# Altium footprint library PcbLib1.PcbLib: 32 footprints (part 2 of 2)
Each footprint in its own frame and in the unit in brackets; x right, y up, seen from the top. Pads: shape width x height; smd on the part's side, far side on the other; paste and mask are expansions set on the pad; w line width, h text height; cw(c..) or ccw(c..) is an arc to the next point about the centre after c.
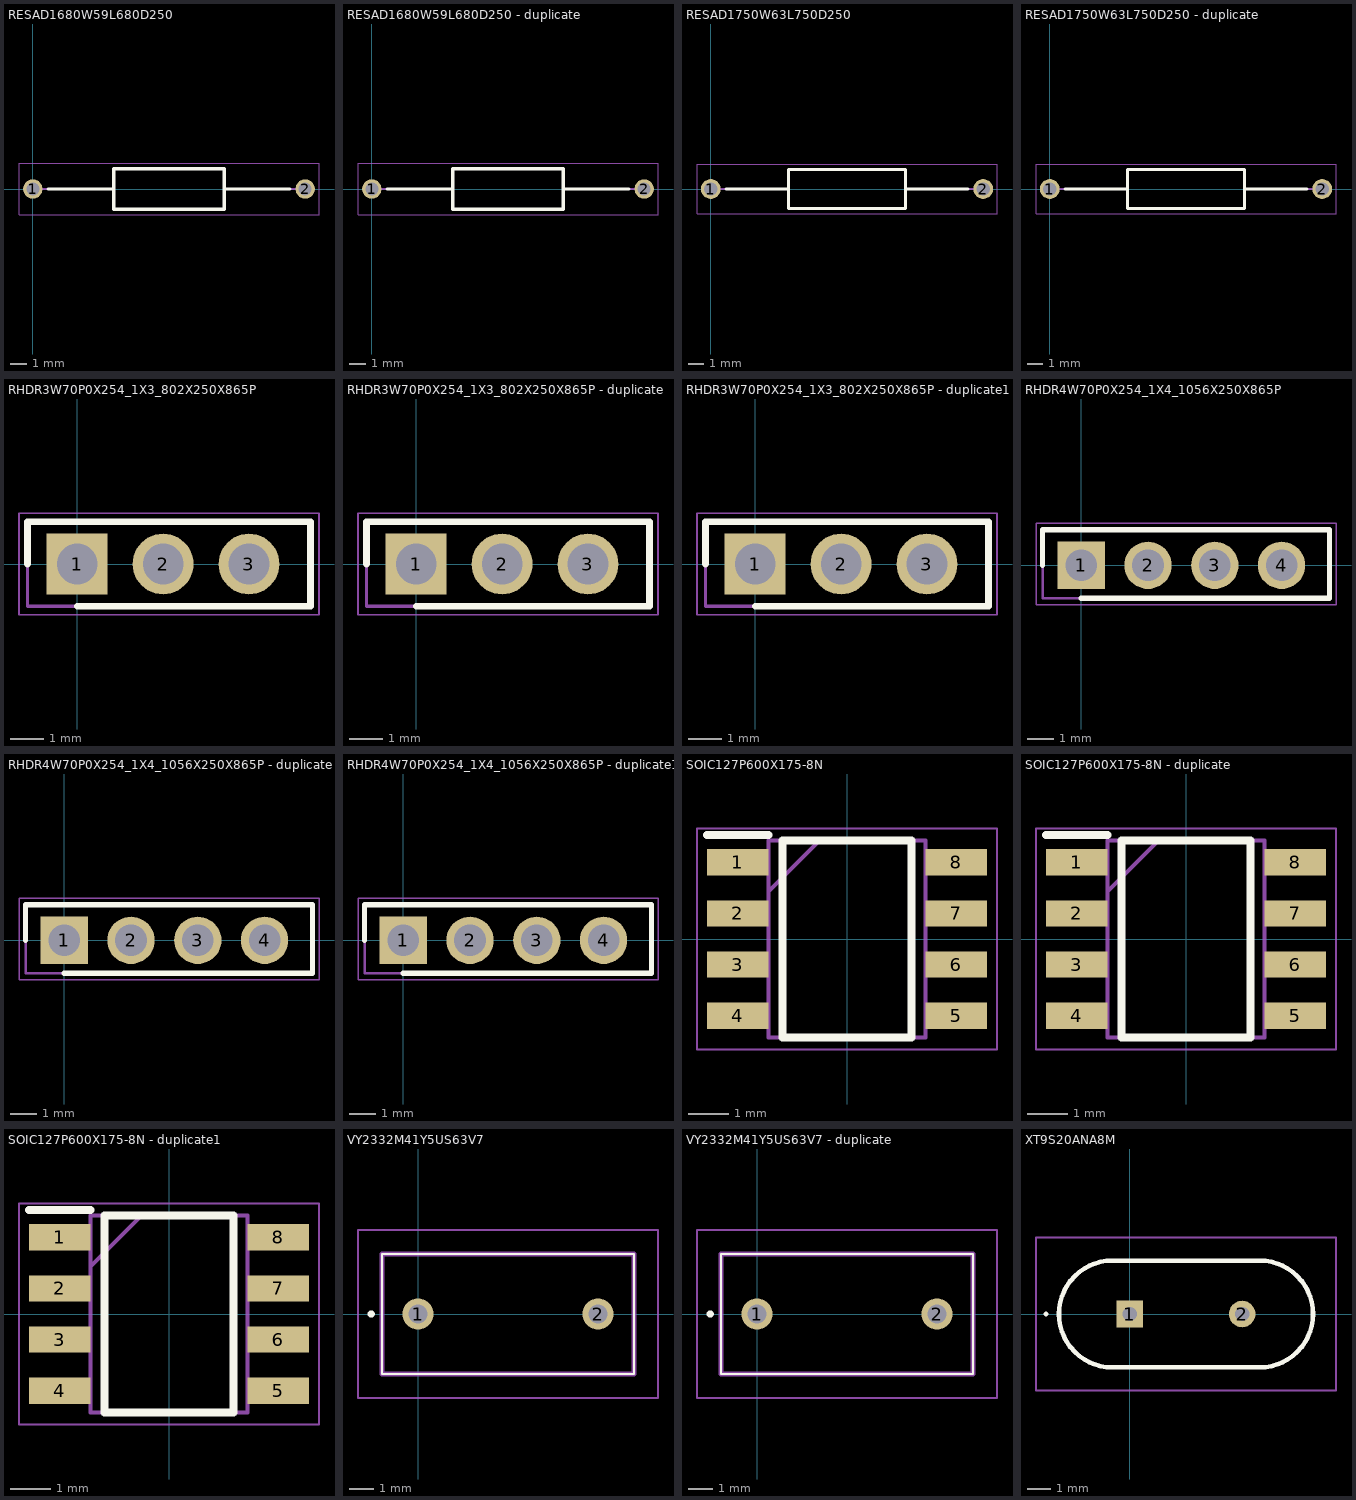
[diagram p1: the footprints below, top view; thin cyan lines are the x and y axes]

## RESAD1680W59L680D250 [mm]
pads (2):
  round 1.2 hole 0.8: 1(0,0) 2(16.8,0)
Top Overlay:
  lines w0.2: 0.95,0 5,0 ; 11.8,0 15.85,0 ; 5,-1.25 5,1.25 11.8,1.25 11.8,-1.25 5,-1.25
Mechanical 13:
  lines w0.1: 0,0 5,0 ; 11.8,0 16.8,0 ; 5,-1.25 5,1.25 11.8,1.25 11.8,-1.25 5,-1.25
Mechanical 15:
  lines w0.05: -0.85,-1.6 -0.85,1.6 17.65,1.6 17.65,-1.6 -0.85,-1.6
3D body "CFR25J120R.stp": height 2.5, standoff -2.5, extent -0.295,-1.241 17.095,1.241

## RESAD1680W59L680D250 - duplicate [mm]
pads (2):
  round 1.2 hole 0.8: 1(0,0) 2(16.8,0)
Top Overlay:
  lines w0.2: 0.95,0 5,0 ; 11.8,0 15.85,0 ; 5,-1.25 5,1.25 11.8,1.25 11.8,-1.25 5,-1.25
Mechanical 13:
  lines w0.1: 0,0 5,0 ; 11.8,0 16.8,0 ; 5,-1.25 5,1.25 11.8,1.25 11.8,-1.25 5,-1.25
Mechanical 15:
  lines w0.05: -0.85,-1.6 -0.85,1.6 17.65,1.6 17.65,-1.6 -0.85,-1.6
3D body "CFR25J120R.stp": height 2.5, standoff -2.5, extent -0.295,-1.241 17.095,1.241

## RESAD1750W63L750D250 [mm]
pads (2):
  round 1.275 hole 0.85: 1(0,0) 2(17.5,0)
Top Overlay:
  lines w0.2: 0.988,0 5,0 ; 12.5,0 16.512,0 ; 5,-1.25 12.5,-1.25 12.5,1.25 5,1.25 5,-1.25
Mechanical 13:
  lines w0.1: 0,0 5,0 ; 12.5,0 17.5,0 ; 5,-1.25 12.5,-1.25 12.5,1.25 5,1.25 5,-1.25
Mechanical 15:
  lines w0.05: -0.888,-1.6 18.387,-1.6 18.387,1.6 -0.888,1.6 -0.888,-1.6
3D body "SFR2500001001JR500.stp": height 2.5, standoff -2.5, extent -0.315,-1.241 17.815,1.241

## RESAD1750W63L750D250 - duplicate [mm]
pads (2):
  round 1.275 hole 0.85: 1(0,0) 2(17.5,0)
Top Overlay:
  lines w0.2: 0.988,0 5,0 ; 12.5,0 16.512,0 ; 5,-1.25 12.5,-1.25 12.5,1.25 5,1.25 5,-1.25
Mechanical 13:
  lines w0.1: 0,0 5,0 ; 12.5,0 17.5,0 ; 5,-1.25 12.5,-1.25 12.5,1.25 5,1.25 5,-1.25
Mechanical 15:
  lines w0.05: -0.888,-1.6 18.387,-1.6 18.387,1.6 -0.888,1.6 -0.888,-1.6
3D body "SFR2500001001JR500.stp": height 2.5, standoff -2.5, extent -0.315,-1.241 17.815,1.241

## RHDR3W70P0X254_1X3_802X250X865P [mm]
pads (3):
  rect 1.8x1.8 hole 1.2: 1(0,0)
  round 1.8 hole 1.2: 2(2.54,0) 3(5.08,0)
Top Overlay:
  lines w0.2: -1.47,0 -1.47,1.25 6.9,1.25 6.9,-1.25 0,-1.25
Mechanical 13:
  lines w0.1: -1.47,-1.25 -1.47,1.25 6.9,1.25 6.9,-1.25 -1.47,-1.25
Mechanical 15:
  lines w0.05: -1.72,-1.5 -1.72,1.5 7.15,1.5 7.15,-1.5 -1.72,-1.5
3D body "M20-7820342.stp": height 8.65, standoff -3.25, extent -1.47,-1.25 6.55,1.25

## RHDR3W70P0X254_1X3_802X250X865P - duplicate [mm]
pads (3):
  rect 1.8x1.8 hole 1.2: 1(0,0)
  round 1.8 hole 1.2: 2(2.54,0) 3(5.08,0)
Top Overlay:
  lines w0.2: -1.47,0 -1.47,1.25 6.9,1.25 6.9,-1.25 0,-1.25
Mechanical 13:
  lines w0.1: -1.47,-1.25 6.9,-1.25 6.9,1.25 -1.47,1.25 -1.47,-1.25
Mechanical 15:
  lines w0.05: -1.72,-1.5 7.15,-1.5 7.15,1.5 -1.72,1.5 -1.72,-1.5
3D body "M20-7820342.stp": height 8.65, standoff -3.25, extent -1.47,-1.25 6.55,1.25

## RHDR3W70P0X254_1X3_802X250X865P - duplicate1 [mm]
pads (3):
  rect 1.8x1.8 hole 1.2: 1(0,0)
  round 1.8 hole 1.2: 2(2.54,0) 3(5.08,0)
Top Overlay:
  lines w0.2: -1.47,0 -1.47,1.25 6.9,1.25 6.9,-1.25 0,-1.25
Mechanical 13:
  lines w0.1: -1.47,-1.25 -1.47,1.25 6.9,1.25 6.9,-1.25 -1.47,-1.25
Mechanical 15:
  lines w0.05: -1.72,-1.5 -1.72,1.5 7.15,1.5 7.15,-1.5 -1.72,-1.5
3D body "M20-7820342.stp": height 8.65, standoff -3.25, extent -1.47,-1.25 6.55,1.25

## RHDR4W70P0X254_1X4_1056X250X865P [mm]
pads (4):
  rect 1.8x1.8 hole 1.2: 1(0,0)
  round 1.8 hole 1.2: 2(2.54,0) 3(5.08,0) 4(7.62,0)
Top Overlay:
  lines w0.2: -1.47,0 -1.47,1.35 9.44,1.35 9.44,-1.25 0,-1.25
Mechanical 13:
  lines w0.1: -1.47,-1.25 9.44,-1.25 9.44,1.35 -1.47,1.35 -1.47,-1.25
Mechanical 15:
  lines w0.05: -1.72,-1.5 9.69,-1.5 9.69,1.6 -1.72,1.6 -1.72,-1.5
3D body "M20-7820442.stp": height 8.65, standoff -3.25, extent -1.47,-1.25 9.09,1.25

## RHDR4W70P0X254_1X4_1056X250X865P - duplicate [mm]
pads (4):
  rect 1.8x1.8 hole 1.2: 1(0,0)
  round 1.8 hole 1.2: 2(2.54,0) 3(5.08,0) 4(7.62,0)
Top Overlay:
  lines w0.2: -1.47,0 -1.47,1.35 9.44,1.35 9.44,-1.25 0,-1.25
Mechanical 13:
  lines w0.1: -1.47,-1.25 -1.47,1.35 9.44,1.35 9.44,-1.25 -1.47,-1.25
Mechanical 15:
  lines w0.05: -1.72,-1.5 -1.72,1.6 9.69,1.6 9.69,-1.5 -1.72,-1.5
3D body "M20-7820442.stp": height 8.65, standoff -3.25, extent -1.47,-1.25 9.09,1.25

## RHDR4W70P0X254_1X4_1056X250X865P - duplicate1 [mm]
pads (4):
  rect 1.8x1.8 hole 1.2: 1(0,0)
  round 1.8 hole 1.2: 2(2.54,0) 3(5.08,0) 4(7.62,0)
Top Overlay:
  lines w0.2: -1.47,0 -1.47,1.35 9.44,1.35 9.44,-1.25 0,-1.25
Mechanical 13:
  lines w0.1: -1.47,-1.25 9.44,-1.25 9.44,1.35 -1.47,1.35 -1.47,-1.25
Mechanical 15:
  lines w0.05: -1.72,-1.5 9.69,-1.5 9.69,1.6 -1.72,1.6 -1.72,-1.5
3D body "M20-7820442.stp": height 8.65, standoff -3.25, extent -1.47,-1.25 9.09,1.25

## SOIC127P600X175-8N [mm]
pads (8):
  rect 1.525x0.65 smd: 1(-2.712,1.905) 2(-2.712,0.635) 3(-2.712,-0.635) 4(-2.712,-1.905) 5(2.712,-1.905) 6(2.712,-0.635) 7(2.712,0.635) 8(2.712,1.905)
Top Overlay:
  lines w0.2: -3.475,2.58 -1.95,2.58 ; -1.6,-2.45 1.6,-2.45 1.6,2.45 -1.6,2.45 -1.6,-2.45
Mechanical 13:
  lines w0.1: -1.95,1.18 -0.68,2.45 ; -1.95,-2.45 1.95,-2.45 1.95,2.45 -1.95,2.45 -1.95,-2.45
Mechanical 15:
  lines w0.05: -3.725,-2.75 3.725,-2.75 3.725,2.75 -3.725,2.75 -3.725,-2.75
3D body "NE555DR.stp": height 1.75, standoff 0, extent -3,-2.45 3,2.45

## SOIC127P600X175-8N - duplicate [mm]
pads (8):
  rect 1.525x0.65 smd: 1(-2.712,1.905) 2(-2.712,0.635) 3(-2.712,-0.635) 4(-2.712,-1.905) 5(2.712,-1.905) 6(2.712,-0.635) 7(2.712,0.635) 8(2.712,1.905)
Top Overlay:
  lines w0.2: -3.475,2.58 -1.95,2.58 ; -1.6,-2.45 1.6,-2.45 1.6,2.45 -1.6,2.45 -1.6,-2.45
Mechanical 13:
  lines w0.1: -1.95,1.18 -0.68,2.45 ; -1.95,-2.45 1.95,-2.45 1.95,2.45 -1.95,2.45 -1.95,-2.45
Mechanical 15:
  lines w0.05: -3.725,-2.75 3.725,-2.75 3.725,2.75 -3.725,2.75 -3.725,-2.75
3D body "NE555DR.stp": height 1.75, standoff 0, extent -3,-2.45 3,2.45

## SOIC127P600X175-8N - duplicate1 [mm]
pads (8):
  rect 1.525x0.65 smd: 1(-2.712,1.905) 2(-2.712,0.635) 3(-2.712,-0.635) 4(-2.712,-1.905) 5(2.712,-1.905) 6(2.712,-0.635) 7(2.712,0.635) 8(2.712,1.905)
Top Overlay:
  lines w0.2: -3.475,2.58 -1.95,2.58 ; -1.6,-2.45 -1.6,2.45 1.6,2.45 1.6,-2.45 -1.6,-2.45
Mechanical 13:
  lines w0.1: -1.95,1.18 -0.68,2.45 ; -1.95,-2.45 -1.95,2.45 1.95,2.45 1.95,-2.45 -1.95,-2.45
Mechanical 15:
  lines w0.05: -3.725,-2.75 -3.725,2.75 3.725,2.75 3.725,-2.75 -3.725,-2.75
3D body "NE555DR.stp": height 1.75, standoff 0, extent -3,-2.45 3,2.45

## VY2332M41Y5US63V7 [mm]
pads (2):
  round 1.3 hole 0.8: 1(0,0) 2(7.5,0)
Top Overlay:
  lines w0.1: -1.5,-2.5 9,-2.5 9,2.5 -1.5,2.5 -1.5,-2.5
  lines w0.2: -2,0 ccw(c-1.95,0) -1.9,0 ; -2,0 cw(c-1.95,0) -1.9,0 ; -2,0 ccw(c-1.95,0) -1.9,0
Mechanical 13:
  lines w0.2: -1.5,-2.5 9,-2.5 9,2.5 -1.5,2.5 -1.5,-2.5
Mechanical 15:
  lines w0.1: -2.5,-3.5 10,-3.5 10,3.5 -2.5,3.5 -2.5,-3.5
3D body "VY2332M41Y5US63V7.stp": height 14.13, standoff -30.35, extent -1.46,-2.5 8.96,2.5

## VY2332M41Y5US63V7 - duplicate [mm]
pads (2):
  round 1.3 hole 0.8: 1(0,0) 2(7.5,0)
Top Overlay:
  lines w0.1: -1.5,-2.5 9,-2.5 9,2.5 -1.5,2.5 -1.5,-2.5
  lines w0.2: -2,0 ccw(c-1.95,0) -1.9,0 ; -2,0 cw(c-1.95,0) -1.9,0 ; -2,0 ccw(c-1.95,0) -1.9,0
Mechanical 13:
  lines w0.2: -1.5,-2.5 9,-2.5 9,2.5 -1.5,2.5 -1.5,-2.5
Mechanical 15:
  lines w0.1: -2.5,-3.5 10,-3.5 10,3.5 -2.5,3.5 -2.5,-3.5
3D body "VY2332M41Y5US63V7.stp": height 14.13, standoff -30.35, extent -1.46,-2.5 8.96,2.5

## XT9S20ANA8M [mm]
pads (2):
  rect 1.155x1.155 hole 0.63: 1(0,0)
  round 1.155 hole 0.63: 2(4.88,0)
Top Overlay:
  lines w0.1: -3.7,0 ccw(c-3.65,0) -3.6,0 ccw(c-3.65,0) -3.7,0
  lines w0.2: -0.76,-2.325 cw(c-0.76,0) -0.76,2.325 5.64,2.325 cw(c5.64,0) 5.64,-2.325 -0.76,-2.325
Mechanical 13:
  lines w0.1: -0.76,-2.325 cw(c-0.76,0) -0.76,2.325 5.64,2.325 cw(c5.64,0) 5.64,-2.325 -0.76,-2.325
Mechanical 15:
  lines w0.1: -4.085,-3.325 -4.085,3.325 8.965,3.325 8.965,-3.325 -4.085,-3.325
3D body "XT9S20ANA8M.stp": height 3.6, standoff -5, extent -3.085,-2.325 7.965,2.325